# Altium footprint library OTHER.PCBLIB: 126 footprints (part 5 of 8)
Each footprint in its own frame and in the unit in brackets; x right, y up, seen from the top. Pads: shape width x height; smd on the part's side, far side on the other; paste and mask are expansions set on the pad; w line width, h text height; cw(c..) or ccw(c..) is an arc to the next point about the centre after c.
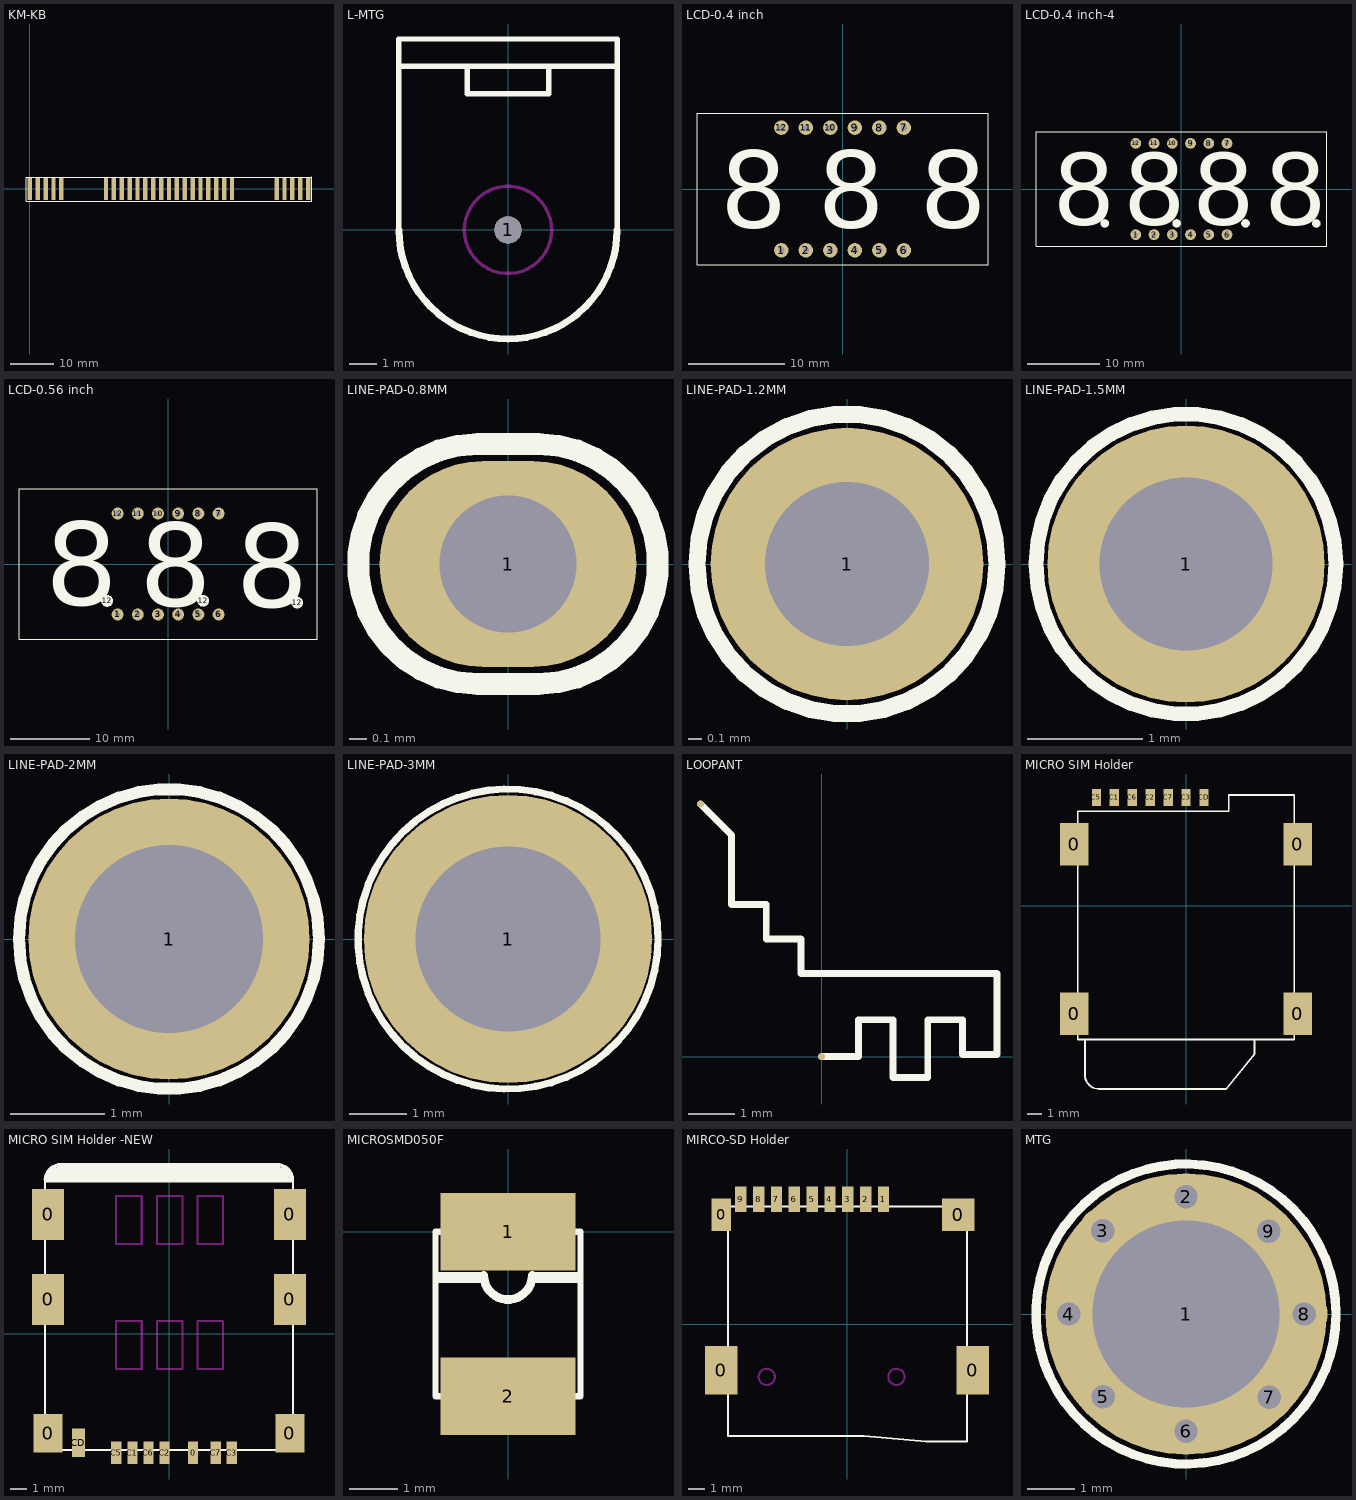
[diagram p4: the footprints below, top view; thin cyan lines are the x and y axes]

## KM-KB [mm]
pads (27):
  rect 1x5 smd: 1(0,0) 2(1.8,0) 3(3.6,0) 4(5.4,0) 5(7.2,0) 6(17.4,0) 7(19.2,0) 8(21,0) 9(22.8,0) 10(24.6,0) 11(26.4,0) 12(28.2,0) 13(30,0) 14(31.8,0) 15(33.6,0) 16(35.4,0) 17(37.2,0) 18(39,0) 19(40.8,0) 20(42.6,0) 21(44.4,0) 22(46.2,0) 23(56.4,0) 24(58.2,0) 25(60,0) 26(61.8,0) 27(63.6,0)
TopOverlay:
  lines w0.254: 64.4,2.7 -0.8,2.7 -0.8,-2.775 64.425,-2.775 64.425,2.725

## L-MTG [mm]
pads (1):
  round 1 hole 1: 1(0,0)
TopOverlay:
  lines w0.2: -4,0 -4,7 4,7 4,0 ; -4,6 4,6 ; -1.5,6 -1.5,5 1.5,5 1.5,6
  lines w0.254: -4,0 ccw(c0,0) 4,0
KeepOutLayer:
  circle w0.127: c0,0 r1.6

## LCD-0.4 inch [mm] "LCD-0.4 inch"
pads (12):
  round 1.5 hole 0.65: 1(-6.35,-6.35) 2(-3.81,-6.35) 3(-1.27,-6.35) 4(1.27,-6.35) 5(3.81,-6.35) 6(6.35,-6.35) 7(6.35,6.35) 8(3.81,6.35) 9(1.27,6.35) 10(-1.27,6.35) 11(-3.81,6.35) 12(-6.35,6.35)
TopOverlay:
  lines w0.127: -15.1,-7.85 -15.1,7.85 15.1,7.85 15.1,-7.85 -15.1,-7.85
  text "8" at -12.7,-4 h8
  text "8" at 8,-4 h8
  text "8" at -2.6,-4 h8

## LCD-0.4 inch-4 [mm] "LCD-0.4 inch-4"
pads (16):
  round 1.5 hole 0.65: 1(-6.35,-6.35) 2(-3.81,-6.35) 3(-1.27,-6.35) 4(1.27,-6.35) 5(3.81,-6.35) 6(6.35,-6.35) 7(6.35,6.35) 8(3.81,6.35) 9(1.27,6.35) 10(-1.27,6.35) 11(-3.81,6.35) 12(-6.35,6.35)
  round 1.2 on Top Overlay: 12(-10.675,-4.8) 12(-0.675,-4.8) 12(8.925,-4.8) 12(18.775,-4.8)
TopOverlay:
  lines w0.127: -20.25,-8 -20.25,8 20.25,8 20.25,-8 -20.25,-8
  text "8" at 11.525,-5 h10
  text "8" at 1.525,-5 h10
  text "8" at -8.125,-5 h10
  text "8" at -17.925,-5 h10

## LCD-0.56 inch [mm] "LCD-0.56 inch"
pads (15):
  round 1.5 hole 0.65: 1(-6.35,-6.35) 2(-3.81,-6.35) 3(-1.27,-6.35) 4(1.27,-6.35) 5(3.81,-6.35) 6(6.35,-6.35) 7(6.35,6.35) 8(3.81,6.35) 9(1.27,6.35) 10(-1.27,6.35) 11(-3.81,6.35) 12(-6.35,6.35)
  round 1.5 on Top Overlay: 12(-7.675,-4.65) 12(4.4,-4.625) 12(16.225,-4.85)
TopOverlay:
  lines w0.127: -18.75,-9.45 -18.75,9.45 18.75,9.45 18.75,-9.45 -18.75,-9.45
  text "8" at -15.45,-5.2 h10.5
  text "8" at 8.475,-5.425 h10.5
  text "8" at -3.6,-5.3 h10.5

## LINE-PAD-0.8MM [mm]
pads (1):
  oval 1.5x1.2 hole 0.8: 1(0,0)
TopOverlay:
  lines w0.127: -0.175,-0.7 cw(c-0.175,0) -0.175,0.7 0.175,0.7 cw(c0.175,0) 0.175,-0.7 -0.175,-0.7

## LINE-PAD-1.2MM [mm]
pads (1):
  round 2 hole 1.2: 1(0,0)
TopOverlay:
  circle w0.127: c0,0 r1.1

## LINE-PAD-1.5MM [mm]
pads (1):
  round 2.4 hole 1.5: 1(0,0)
TopOverlay:
  circle w0.127: c0,0 r1.3

## LINE-PAD-2MM [mm]
pads (1):
  round 3 hole 2: 1(0,0)
TopOverlay:
  circle w0.127: c0,0 r1.6

## LINE-PAD-3MM [mm]
pads (1):
  round 5 hole 3.2: 1(0,0)
TopOverlay:
  circle w0.127: c0,0 r2.6

## LOOPANT [mm]
pads (2):
  round 0.15 smd: 1(0,0) 2(-2.625,5.475)
TopOverlay:
  lines w0.15: -2.625,5.475 -1.95,4.8 -1.95,3.3 -1.2,3.3 -1.2,2.55 -0.45,2.55 -0.45,1.8 3.8,1.8 3.8,0.05 3.05,0.05 3.05,0.8 2.3,0.8 2.3,-0.45 1.55,-0.45 1.55,0.8 0.8,0.8 0.8,0 0,0

## MICRO SIM Holder [mm] "MICRO SIM Holder"
pads (11):
  rect 2x3 smd: 0(-7.9,-7.654) 0(-7.9,4.346) 0(7.9,-7.654) 0(7.9,4.346)
  rect 0.65x1.2 smd: C1(-5.07,7.654) C2(-2.53,7.654) C3(0.01,7.654) C5(-6.34,7.654) C6(-3.8,7.654) C7(-1.26,7.654) CD(1.28,7.654)
TopOverlay:
  lines w0.127: -7.15,-9.464 -7.15,-11.964 ccw(c-6.15,-11.964) -6.15,-12.964 2.85,-12.964 4.85,-10.464 4.85,-9.464 ; -7.65,-9.464 -7.65,6.679 3.025,6.679 3.025,7.829 7.65,7.829 7.65,-9.464 -7.65,-9.464

## MICRO SIM Holder -NEW [mm] "MICRO SIM Holder -NEW"
pads (14):
  rect 1.8x2.4 smd: 0(-7.55,-6.214) 0(7.55,-6.214)
  rect 2x3.2 smd: 0(-7.55,2.136) 0(-7.55,7.436) 0(7.55,2.136) 0(7.55,7.436)
  rect 0.65x1.4 smd: 0(1.5,-7.436) C1(-2.28,-7.436) C2(-0.28,-7.436) C3(3.91,-7.436) C5(-3.28,-7.436) C6(-1.28,-7.436) C7(2.91,-7.436)
  rect 0.8x1.8 smd: CD(-5.65,-6.814)
TopOverlay:
  rectangle: -6.95,9.486 6.9,10.585
  rectangle: 6.875,9.515 7.42,10.25
  region: -6.88,10.25 -7.425,10.25 -7.425,9.515 -6.88,9.515
  lines w0.127: -7.65,9.49 cw(c-6.805,9.49) -6.805,10.335 ; -7.65,9.615 cw(c-6.805,9.615) -6.805,10.46 ; -7.525,9.54 cw(c-6.68,9.54) -6.68,10.385 ; -7.425,9.515 cw(c-6.58,9.515) -6.58,10.36 ; 6.575,10.36 cw(c6.575,9.515) 7.42,9.515 ; 6.675,10.385 cw(c6.675,9.54) 7.52,9.54 ; 6.8,10.335 cw(c6.8,9.49) 7.645,9.49 ; 6.8,10.46 cw(c6.8,9.615) 7.645,9.615 ; 7.745,9.486 ccw(c6.75,9.586) 6.75,10.586 -6.755,10.586 ccw(c-6.755,9.585) -7.75,9.486 ; -7.75,9.486 -7.75,-7.264 7.75,-7.264 7.75,9.486 -7.75,9.486
KeepOutLayer:
  lines w0.127: -3.3,-2.214 -3.3,0.786 -1.7,0.786 -1.7,-2.214 -3.3,-2.214 ; -3.3,5.586 -1.7,5.586 -1.7,8.586 -3.3,8.586 -3.3,5.586 ; -0.75,-2.214 -0.75,0.786 0.85,0.786 0.85,-2.214 -0.75,-2.214 ; -0.75,5.586 -0.75,8.586 0.85,8.586 0.85,5.586 -0.75,5.586 ; 1.775,-2.214 1.775,0.786 3.375,0.786 3.375,-2.214 1.775,-2.214 ; 1.775,5.586 1.775,8.586 3.375,8.586 3.375,5.586 1.775,5.586

## MICROSMD050F [mm]
pads (2):
  rect 2.8x1.6 smd: 1(0,0) 2(0,-3.4)
TopOverlay:
  lines w0.127: -1.5,-1 -0.5,-1 ; -1.5,-0.9 -0.5,-0.9 ; 0.5,-1 1.5,-1 ; 0.5,-0.9 1.5,-0.9 ; -1.5,-3.4 1.5,-3.4 1.5,0 -1.5,0 -1.5,-3.4
  lines w0.18: -0.5,-0.9 ccw(c0,-0.9) 0.5,-0.9

## MIRCO-SD Holder [mm] "MIRCO-SD Holder"
pads (13):
  rect 2x3 smd: 0(-7.78,-2.85) 0(7.72,-2.85)
  rect 1.2x2 smd: 0(-7.78,6.75)
  rect 2x2 smd: 0(6.82,6.75)
  rect 0.7x1.6 smd: 1(2.22,7.7) 2(1.12,7.7) 3(0.02,7.7) 4(-1.08,7.7) 5(-2.18,7.7) 6(-3.28,7.7) 7(-4.38,7.7) 8(-5.48,7.7) 9(-6.58,7.7)
TopOverlay:
  lines w0.127: -7.375,-6.9 -7.375,7.25 7.375,7.25 7.375,-7.25 4.85,-7.25 1.025,-6.9 -7.375,-6.9
KeepOutLayer:
  circle w0.127: c-4.98,-3.25 r0.5
  circle w0.127: c3.02,-3.25 r0.5

## MTG [mm]
pads (9):
  round 6 hole 4: 1(0,0)
  round 1 hole 0.5: 2(0,2.499) 3(-1.777,1.777) 4(-2.499,0) 5(-1.765,-1.765) 6(0,-2.499) 7(1.771,-1.771) 8(2.524,0) 9(1.762,1.762)
TopOverlay:
  circle w0.2: c0,0 r3.2